# EAGLE library part DUE_HALF_SHIELD (library Felicia_force_logger)
Arduino Due half shield This shield occupies the normal Uno R3 pins and footprint, along with the Due's 2x3 SPI header and 4-pin debug header. **NOTE** The 5V pin (5V_SPI) on the Due SPI header does supply 5V from the Due, not the 3v3 you might expect.
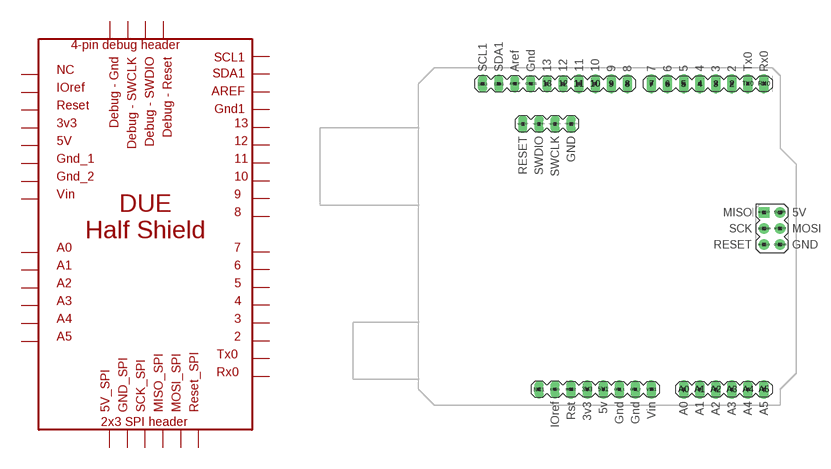
[diagram p9: symbol with the pads of DUE_HALF_SHIELD; footprint DUE_HALF_SHIELD]

Designator prefix -

## DUE_HALF_SHIELD  [DUE_HALF_SHIELD]
2  2
3  3
3V3  3V3
4  4
5  5
5V1  5V
5V_SPI  5V_SPI
6  6
7  7
8  8
9  9
10  10
11  11
12  12
13  13
A0  A0
A1  A1
A2  A2
A3  A3
A4  A4
A5  A5
AREF  AREF
GND1  GND1
GND_1  GND_1
GND_2  GND_2
GND_DEBUG  GND_DEBUG
GND_SPI  GND_SPI
IOREF1  IOREF
MISO_SPI  MISO_SPI
MOSI_SPI  MOSI_SPI
NC1  NC
RESET  RESET
RESET_DEBUG  RESET_DEBUG
RESET_SPI  RESET_SPI
RX0  RX0
SCK_SPI  SCK_SPI
SCL1  SCL1
SDA1  SDA1
SWCLK_DEBUG  SWCLK_DEBUG
SWDIO_DEBUG  SWDIO_DEBUG
TX0  TX0
VIN1  VIN

## Footprint DUE_HALF_SHIELD (pad centres in mm)
Arduino Uno/Due shield This footprint mimics a standard Uno R3 shield, with the 2x3pin ICSP header that is necessary for SPI communication with the Due, and the SWD 4-pin header. **NOTE** The 5V pin on the 2x3 ICSP header (used for SPI from DUE) is 5V from the Due, not 3V3 as you might expect.
drill 1 long: 2 49.53,50.8; 3 46.99,50.8; 3V3 26.67,2.54; 4 44.45,50.8; 5 41.91,50.8; 5V1 29.21,2.54; 6 39.37,50.8; 7 36.83,50.8; 8 33.02,50.8; 9 30.48,50.8; 10 27.94,50.8; 11 25.4,50.8; A0 41.91,2.54; A1 44.45,2.54; A2 46.99,2.54; A3 49.53,2.54; A4 52.07,2.54; A5 54.61,2.54; GND_1 31.75,2.54; GND_2 34.29,2.54; RESET 24.13,2.54; RX0 54.61,50.8; TX0 52.07,50.8; VIN1 36.83,2.54
drill 0.7 pad 1.676: 5V_SPI 57.15,30.48; GND_SPI 57.15,25.4; MOSI_SPI 57.15,27.94; RESET_SPI 54.61,25.4; SCK_SPI 54.61,27.94
drill 0.9 long: 12 22.86,50.8; 13 20.32,50.8; AREF 15.24,50.8; GND1 17.78,50.8
drill 0.8 pad 1.422 long: GND_DEBUG 24.13,44.45; IOREF1 21.59,2.54; NC1 19.05,2.54; RESET_DEBUG 16.51,44.45; SWCLK_DEBUG 21.59,44.45; SWDIO_DEBUG 19.05,44.45
drill 0.7 pad 1.676 square: MISO_SPI 54.61,30.48
drill 0.9 pad 1.422 long: SCL1 10.16,50.8; SDA1 12.7,50.8